# Altium schematic symbol library NTD4970N.SchLib: 1 symbol
Pins are listed as number, name and electrical type; pins without a type are passive.

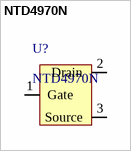
[diagram p0: symbol NTD4970N]

## NTD4970N
designator U?
pins: 1 Gate, 2 Drain, 3 Source